# EAGLE library part DS2782 (library MyParts)
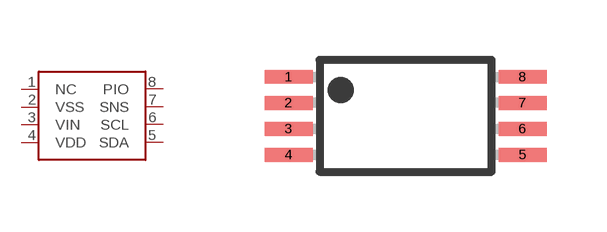
[diagram p7: symbol with the pads of TSSOP8; footprint TSSOP8]

Designator prefix -

## DS2782  [TSSOP8]
1  NC
2  VSS
3  VIN
4  VDD
5  SDA
6  SCL
7  SNS
8  PIO

## Footprint TSSOP8 (pad centres in mm)
Plastic Small Outline
smd 1.2 x 0.35: 1 -2.925,0.975; 2 -2.925,0.325; 3 -2.925,-0.325; 4 -2.925,-0.975; 5 2.925,-0.975; 6 2.925,-0.325; 7 2.925,0.325; 8 2.925,0.975